# Altium schematic symbol library Regulator_Linear.SchLib: 1620 symbols (part 5 of 16)
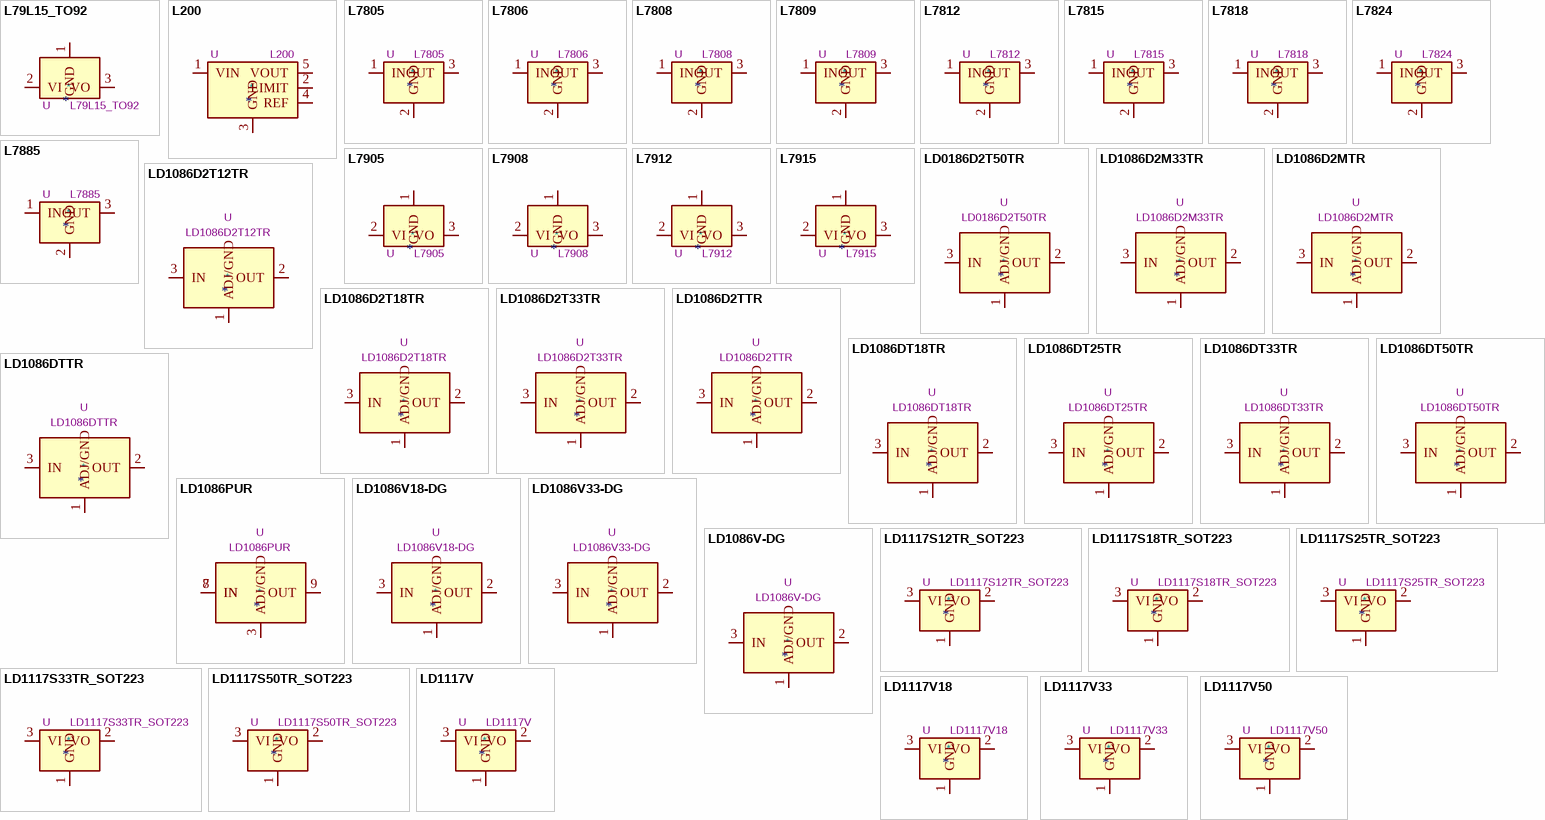
[diagram p44: symbols L79L15_TO92 to LD1117V50]

## LD1086D2MTR
designator *  value LD1086D2MTR  Reference: U
Positive, 1.5A 30V, Linear Regulator, Adjustable TO-263; ki_keywords: Linear Regulator 1.5A Adjustable; ki_fp_filters: TO?263*TabPin2*; Footprint: Package_TO_SOT_SMD:TO-263-3_TabPin2; Datasheet: https://www.st.com/resource/en/datasheet/ld1086.pdf; Description_: Positive, 1.5A 30V, Linear Regulator, Adjustable TO-263
pins: 1 ADJ/GND, 2 OUT, 3 IN

## LD1086D2T12TR
designator *  value LD1086D2T12TR  Reference: U
Positive, 1.5A 30V, Linear Regulator, Fixed Output 12V, TO-263; ki_keywords: Linear Regulator 1.5A Fixed Output; ki_fp_filters: TO?263?2*; Footprint: Package_TO_SOT_SMD:TO-263-2; Datasheet: https://www.st.com/resource/en/datasheet/ld1086.pdf; Description_: Positive, 1.5A 30V, Linear Regulator, Fixed Output 12V, TO-263
pins: 1 ADJ/GND, 2 OUT, 3 IN

## LD1086D2T18TR
designator *  value LD1086D2T18TR  Reference: U
Positive, 1.5A 30V, Linear Regulator, Fixed Output 1.8V, TO-263; ki_keywords: Linear Regulator 1.5A Fixed Output; ki_fp_filters: TO?263?2*; Footprint: Package_TO_SOT_SMD:TO-263-2; Datasheet: https://www.st.com/resource/en/datasheet/ld1086.pdf; Description_: Positive, 1.5A 30V, Linear Regulator, Fixed Output 1.8V, TO-263
pins: 1 ADJ/GND, 2 OUT, 3 IN

## LD1086D2T33TR
designator *  value LD1086D2T33TR  Reference: U
Positive, 1.5A 30V, Linear Regulator, Fixed Output 3.3V, TO-263; ki_keywords: Linear Regulator 1.5A Fixed Output; ki_fp_filters: TO?263?2*; Footprint: Package_TO_SOT_SMD:TO-263-2; Datasheet: https://www.st.com/resource/en/datasheet/ld1086.pdf; Description_: Positive, 1.5A 30V, Linear Regulator, Fixed Output 3.3V, TO-263
pins: 1 ADJ/GND, 2 OUT, 3 IN

## LD1086D2TTR
designator *  value LD1086D2TTR  Reference: U
Positive, 1.5A 30V, Linear Regulator, Adjustable, TO-263; ki_keywords: Linear Regulator 1.5A Adjustable; ki_fp_filters: TO?263?2*; Footprint: Package_TO_SOT_SMD:TO-263-2; Datasheet: https://www.st.com/resource/en/datasheet/ld1086.pdf; Description_: Positive, 1.5A 30V, Linear Regulator, Adjustable, TO-263
pins: 1 ADJ/GND, 2 OUT, 3 IN

## LD1086DT18TR
designator *  value LD1086DT18TR  Reference: U
Positive, 1.5A 30V, Linear Regulator, Fixed Output 1.8V, TO-252; ki_keywords: Linear Regulator 1.5A Fixed Output; ki_fp_filters: TO?252?2*; Footprint: Package_TO_SOT_SMD:TO-252-2; Datasheet: https://www.st.com/resource/en/datasheet/ld1086.pdf; Description_: Positive, 1.5A 30V, Linear Regulator, Fixed Output 1.8V, TO-252
pins: 1 ADJ/GND, 2 OUT, 3 IN

## LD1086DT25TR
designator *  value LD1086DT25TR  Reference: U
Positive, 1.5A 30V, Linear Regulator, Fixed Output 2.5V, TO-252; ki_keywords: Linear Regulator 1.5A Fixed Output; ki_fp_filters: TO?252?2*; Footprint: Package_TO_SOT_SMD:TO-252-2; Datasheet: https://www.st.com/resource/en/datasheet/ld1086.pdf; Description_: Positive, 1.5A 30V, Linear Regulator, Fixed Output 2.5V, TO-252
pins: 1 ADJ/GND, 2 OUT, 3 IN

## LD1086DT33TR
designator *  value LD1086DT33TR  Reference: U
Positive, 1.5A 30V, Linear Regulator, Fixed Output 3.3V, TO-252; ki_keywords: Linear Regulator 1.5A Fixed Output; ki_fp_filters: TO?252?2*; Footprint: Package_TO_SOT_SMD:TO-252-2; Datasheet: https://www.st.com/resource/en/datasheet/ld1086.pdf; Description_: Positive, 1.5A 30V, Linear Regulator, Fixed Output 3.3V, TO-252
pins: 1 ADJ/GND, 2 OUT, 3 IN

## LD1086DT50TR
designator *  value LD1086DT50TR  Reference: U
Positive, 1.5A 30V, Linear Regulator, Fixed Output 5V, TO-252; ki_keywords: Linear Regulator 1.5A Fixed Output; ki_fp_filters: TO?252?2*; Footprint: Package_TO_SOT_SMD:TO-252-2; Datasheet: https://www.st.com/resource/en/datasheet/ld1086.pdf; Description_: Positive, 1.5A 30V, Linear Regulator, Fixed Output 5V, TO-252
pins: 1 ADJ/GND, 2 OUT, 3 IN

## LD1086DTTR
designator *  value LD1086DTTR  Reference: U
Positive, 1.5A 30V, Linear Regulator, Adjustable, TO-252; ki_keywords: Linear Regulator 1.5A Adjustable; ki_fp_filters: TO?252?2*; Footprint: Package_TO_SOT_SMD:TO-252-2; Datasheet: https://www.st.com/resource/en/datasheet/ld1086.pdf; Description_: Positive, 1.5A 30V, Linear Regulator, Adjustable, TO-252
pins: 1 ADJ/GND, 2 OUT, 3 IN

## LD1086PUR
designator *  value LD1086PUR  Reference: U
Positive, 1.5A 30V, Linear Regulator, Adjustable, DFN8; ki_keywords: Linear Regulator 1.5A Adjustable; ki_fp_filters: DFN*1EP*4x4mm*P0.8mm*; Footprint: Package_DFN_QFN:DFN-8-1EP_4x4mm_P0.8mm_EP2.3x3.24mm; Datasheet: https://www.st.com/resource/en/datasheet/ld1086.pdf; Description_: Positive, 1.5A 30V, Linear Regulator, Adjustable, DFN8
pins: 3 ADJ/GND, 7 IN, 8 IN, 9 OUT

## LD1086V18-DG
designator *  value LD1086V18-DG  Reference: U
Positive, 1.5A 30V, Linear Regulator, Fixed Output 1.8V, TO-220; ki_keywords: Linear Regulator 1.5A Fixed Output; ki_fp_filters: TO?220*; Footprint: Package_TO_SOT_THT:TO-220-3_Vertical; Datasheet: https://www.st.com/resource/en/datasheet/ld1086.pdf; Description_: Positive, 1.5A 30V, Linear Regulator, Fixed Output 1.8V, TO-220
pins: 1 ADJ/GND, 2 OUT, 3 IN

## LD1086V33-DG
designator *  value LD1086V33-DG  Reference: U
Positive, 1.5A 30V, Linear Regulator, Fixed Output 3.3V, TO-220; ki_keywords: Linear Regulator 1.5A Fixed Output; ki_fp_filters: TO?220*; Footprint: Package_TO_SOT_THT:TO-220-3_Vertical; Datasheet: https://www.st.com/resource/en/datasheet/ld1086.pdf; Description_: Positive, 1.5A 30V, Linear Regulator, Fixed Output 3.3V, TO-220
pins: 1 ADJ/GND, 2 OUT, 3 IN

## LD1086V-DG
designator *  value LD1086V-DG  Reference: U
Positive, 1.5A 30V, Linear Regulator, Adjustable, TO-220; ki_keywords: Linear Regulator 1.5A Adjustable; ki_fp_filters: TO?220*; Footprint: Package_TO_SOT_THT:TO-220-3_Vertical; Datasheet: https://www.st.com/resource/en/datasheet/ld1086.pdf; Description_: Positive, 1.5A 30V, Linear Regulator, Adjustable, TO-220
pins: 1 ADJ/GND, 2 OUT, 3 IN

## LD1117S12TR_SOT223
designator *  value LD1117S12TR_SOT223  Reference: U
800mA Fixed Low Drop Positive Voltage Regulator, Fixed Output 1.2V, SOT-223; ki_keywords: REGULATOR LDO 1.2V; ki_fp_filters: SOT?223*TabPin2*; Footprint: Package_TO_SOT_SMD:SOT-223-3_TabPin2; Datasheet: http://www.st.com/st-web-ui/static/active/en/resource/technical/document/datasheet/CD00000544.pdf; Description_: 800mA Fixed Low Drop Positive Voltage Regulator, Fixed Output 1.2V, SOT-223
pins: 1 GND, 2 VO, 3 VI

## LD1117S18TR_SOT223
designator *  value LD1117S18TR_SOT223  Reference: U
800mA Fixed Low Drop Positive Voltage Regulator, Fixed Output 1.8V, SOT-223; ki_keywords: REGULATOR LDO 1.8V; ki_fp_filters: SOT?223*TabPin2*; Footprint: Package_TO_SOT_SMD:SOT-223-3_TabPin2; Datasheet: http://www.st.com/st-web-ui/static/active/en/resource/technical/document/datasheet/CD00000544.pdf; Description_: 800mA Fixed Low Drop Positive Voltage Regulator, Fixed Output 1.8V, SOT-223
pins: 1 GND, 2 VO, 3 VI

## LD1117S25TR_SOT223
designator *  value LD1117S25TR_SOT223  Reference: U
800mA Fixed Low Drop Positive Voltage Regulator, Fixed Output 2.5V, SOT-223; ki_keywords: REGULATOR LDO 2.5V; ki_fp_filters: SOT?223*TabPin2*; Footprint: Package_TO_SOT_SMD:SOT-223-3_TabPin2; Datasheet: http://www.st.com/st-web-ui/static/active/en/resource/technical/document/datasheet/CD00000544.pdf; Description_: 800mA Fixed Low Drop Positive Voltage Regulator, Fixed Output 2.5V, SOT-223
pins: 1 GND, 2 VO, 3 VI

## LD1117S33TR_SOT223
designator *  value LD1117S33TR_SOT223  Reference: U
800mA Fixed Low Drop Positive Voltage Regulator, Fixed Output 3.3V, SOT-223; ki_keywords: REGULATOR LDO 3.3V; ki_fp_filters: SOT?223*TabPin2*; Footprint: Package_TO_SOT_SMD:SOT-223-3_TabPin2; Datasheet: http://www.st.com/st-web-ui/static/active/en/resource/technical/document/datasheet/CD00000544.pdf; Description_: 800mA Fixed Low Drop Positive Voltage Regulator, Fixed Output 3.3V, SOT-223
pins: 1 GND, 2 VO, 3 VI

## LD1117S50TR_SOT223
designator *  value LD1117S50TR_SOT223  Reference: U
800mA Fixed Low Drop Positive Voltage Regulator, Fixed Output 5.0V, SOT-223; ki_keywords: REGULATOR LDO 5.0V; ki_fp_filters: SOT?223*TabPin2*; Footprint: Package_TO_SOT_SMD:SOT-223-3_TabPin2; Datasheet: http://www.st.com/st-web-ui/static/active/en/resource/technical/document/datasheet/CD00000544.pdf; Description_: 800mA Fixed Low Drop Positive Voltage Regulator, Fixed Output 5.0V, SOT-223
pins: 1 GND, 2 VO, 3 VI

## LD1117V
designator *  value LD1117V  Reference: U
800 mA Variable Low Drop Positive Voltage Regulator (ldo). Max input 15V. Output from 1.25V to 25V. TO-220-3; ki_keywords: low-dropout-regulator ldo; ki_fp_filters: *TO*220*; Footprint: Package_TO_SOT_THT:TO-220-3_Vertical; Datasheet: https://www.st.com/resource/en/datasheet/ld1117.pdf; Description_: 800 mA Variable Low Drop Positive Voltage Regulator (ldo). Max input 15V. Output from 1.25V to 25V. TO-220-3
pins: 1 GND, 2 VO, 3 VI

## LD1117V18
designator *  value LD1117V18  Reference: U
800 mA Fixed Low Drop Positive Voltage Regulator (LDO). Max input 15V. Fixed Output 1.8V. TO-220-3; ki_keywords: low-dropout-regulator ldo; ki_fp_filters: *TO*220*; Footprint: Package_TO_SOT_THT:TO-220-3_Vertical; Datasheet: https://www.st.com/resource/en/datasheet/ld1117.pdf; Description_: 800 mA Fixed Low Drop Positive Voltage Regulator (LDO). Max input 15V. Fixed Output 1.8V. TO-220-3
pins: 1 GND, 2 VO, 3 VI

## LD1117V33
designator *  value LD1117V33  Reference: U
800 mA Fixed Low Drop Positive Voltage Regulator (ldo). Max input 15V. Fixed Output 3.3V. TO-220-3; ki_keywords: low-dropout-regulator ldo; ki_fp_filters: *TO?220*; Footprint: Package_TO_SOT_THT:TO-220-3_Vertical; Datasheet: https://www.st.com/resource/en/datasheet/ld1117.pdf; Description_: 800 mA Fixed Low Drop Positive Voltage Regulator (ldo). Max input 15V. Fixed Output 3.3V. TO-220-3
pins: 1 GND, 2 VO, 3 VI

## LD1117V50
designator *  value LD1117V50  Reference: U
800 mA Fixed Low Drop Positive Voltage Regulator (ldo). Max input 15V. Fixed Output 5.0V. TO-220-3; ki_keywords: low-dropout-regulator ldo; ki_fp_filters: *TO*220*; Footprint: Package_TO_SOT_THT:TO-220-3_Vertical; Datasheet: https://www.st.com/resource/en/datasheet/ld1117.pdf; Description_: 800 mA Fixed Low Drop Positive Voltage Regulator (ldo). Max input 15V. Fixed Output 5.0V. TO-220-3
pins: 1 GND, 2 VO, 3 VI

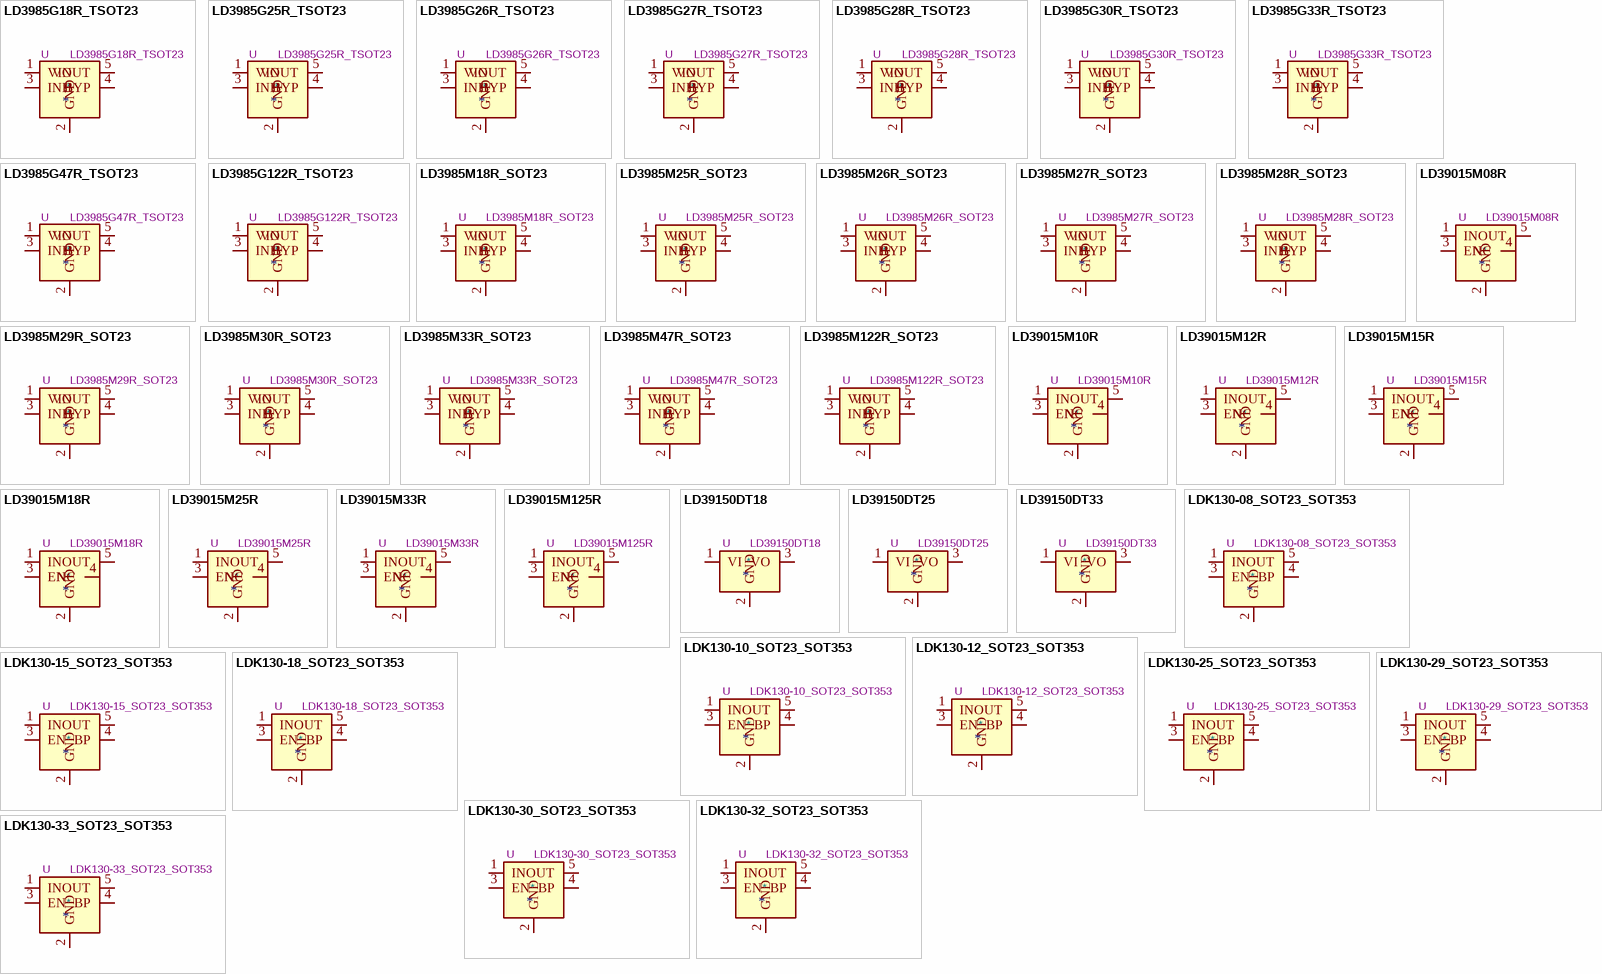
[diagram p11: symbols LD3985G18R_TSOT23 to LDK130-33_SOT23_SOT353]

## LD3985G18R_TSOT23
designator *  value LD3985G18R_TSOT23  Reference: U
150mA Low Dropout Voltage Regulator, Fixed Output 1.8V, TSOT-23-5; ki_keywords: 150mA LDO Regulator Fixed Positive; ki_fp_filters: TSOT?23*; Footprint: Package_TO_SOT_SMD:TSOT-23-5; Datasheet: http://www.st.com/internet/com/TECHNICAL_RESOURCES/TECHNICAL_LITERATURE/DATASHEET/CD00003395.pdf; Description_: 150mA Low Dropout Voltage Regulator, Fixed Output 1.8V, TSOT-23-5
pins: 1 VIN, 2 GND, 3 INH, 4 BYP, 5 VOUT

## LD3985G25R_TSOT23
designator *  value LD3985G25R_TSOT23  Reference: U
150mA Low Dropout Voltage Regulator, Fixed Output 2.5V, TSOT-23-5; ki_keywords: 150mA LDO Regulator Fixed Positive; ki_fp_filters: TSOT?23*; Footprint: Package_TO_SOT_SMD:TSOT-23-5; Datasheet: http://www.st.com/internet/com/TECHNICAL_RESOURCES/TECHNICAL_LITERATURE/DATASHEET/CD00003395.pdf; Description_: 150mA Low Dropout Voltage Regulator, Fixed Output 2.5V, TSOT-23-5
pins: 1 VIN, 2 GND, 3 INH, 4 BYP, 5 VOUT

## LD3985G26R_TSOT23
designator *  value LD3985G26R_TSOT23  Reference: U
150mA Low Dropout Voltage Regulator, Fixed Output 2.6V, TSOT-23-5; ki_keywords: 150mA LDO Regulator Fixed Positive; ki_fp_filters: TSOT?23*; Footprint: Package_TO_SOT_SMD:TSOT-23-5; Datasheet: http://www.st.com/internet/com/TECHNICAL_RESOURCES/TECHNICAL_LITERATURE/DATASHEET/CD00003395.pdf; Description_: 150mA Low Dropout Voltage Regulator, Fixed Output 2.6V, TSOT-23-5
pins: 1 VIN, 2 GND, 3 INH, 4 BYP, 5 VOUT

## LD3985G27R_TSOT23
designator *  value LD3985G27R_TSOT23  Reference: U
150mA Low Dropout Voltage Regulator, Fixed Output 2.7V, TSOT-23-5; ki_keywords: 150mA LDO Regulator Fixed Positive; ki_fp_filters: TSOT?23*; Footprint: Package_TO_SOT_SMD:TSOT-23-5; Datasheet: http://www.st.com/internet/com/TECHNICAL_RESOURCES/TECHNICAL_LITERATURE/DATASHEET/CD00003395.pdf; Description_: 150mA Low Dropout Voltage Regulator, Fixed Output 2.7V, TSOT-23-5
pins: 1 VIN, 2 GND, 3 INH, 4 BYP, 5 VOUT

## LD3985G28R_TSOT23
designator *  value LD3985G28R_TSOT23  Reference: U
150mA Low Dropout Voltage Regulator, Fixed Output 2.8V, TSOT-23-5; ki_keywords: 150mA LDO Regulator Fixed Positive; ki_fp_filters: TSOT?23*; Footprint: Package_TO_SOT_SMD:TSOT-23-5; Datasheet: http://www.st.com/internet/com/TECHNICAL_RESOURCES/TECHNICAL_LITERATURE/DATASHEET/CD00003395.pdf; Description_: 150mA Low Dropout Voltage Regulator, Fixed Output 2.8V, TSOT-23-5
pins: 1 VIN, 2 GND, 3 INH, 4 BYP, 5 VOUT

## LD3985G30R_TSOT23
designator *  value LD3985G30R_TSOT23  Reference: U
150mA Low Dropout Voltage Regulator, Fixed Output 3.0V, TSOT-23-5; ki_keywords: 150mA LDO Regulator Fixed Positive; ki_fp_filters: TSOT?23*; Footprint: Package_TO_SOT_SMD:TSOT-23-5; Datasheet: http://www.st.com/internet/com/TECHNICAL_RESOURCES/TECHNICAL_LITERATURE/DATASHEET/CD00003395.pdf; Description_: 150mA Low Dropout Voltage Regulator, Fixed Output 3.0V, TSOT-23-5
pins: 1 VIN, 2 GND, 3 INH, 4 BYP, 5 VOUT

## LD3985G33R_TSOT23
designator *  value LD3985G33R_TSOT23  Reference: U
150mA Low Dropout Voltage Regulator, Fixed Output 3.3V, TSOT-23-5; ki_keywords: 150mA LDO Regulator Fixed Positive; ki_fp_filters: TSOT?23*; Footprint: Package_TO_SOT_SMD:TSOT-23-5; Datasheet: http://www.st.com/internet/com/TECHNICAL_RESOURCES/TECHNICAL_LITERATURE/DATASHEET/CD00003395.pdf; Description_: 150mA Low Dropout Voltage Regulator, Fixed Output 3.3V, TSOT-23-5
pins: 1 VIN, 2 GND, 3 INH, 4 BYP, 5 VOUT

## LD3985G47R_TSOT23
designator *  value LD3985G47R_TSOT23  Reference: U
150mA Low Dropout Voltage Regulator, Fixed Output 4.7V, TSOT-23-5; ki_keywords: 150mA LDO Regulator Fixed Positive; ki_fp_filters: TSOT?23*; Footprint: Package_TO_SOT_SMD:TSOT-23-5; Datasheet: http://www.st.com/internet/com/TECHNICAL_RESOURCES/TECHNICAL_LITERATURE/DATASHEET/CD00003395.pdf; Description_: 150mA Low Dropout Voltage Regulator, Fixed Output 4.7V, TSOT-23-5
pins: 1 VIN, 2 GND, 3 INH, 4 BYP, 5 VOUT

## LD3985G122R_TSOT23
designator *  value LD3985G122R_TSOT23  Reference: U
150mA Low Dropout Voltage Regulator, Fixed Output 1.22V, TSOT-23-5; ki_keywords: 150mA LDO Regulator Fixed Positive; ki_fp_filters: TSOT?23*; Footprint: Package_TO_SOT_SMD:TSOT-23-5; Datasheet: http://www.st.com/internet/com/TECHNICAL_RESOURCES/TECHNICAL_LITERATURE/DATASHEET/CD00003395.pdf; Description_: 150mA Low Dropout Voltage Regulator, Fixed Output 1.22V, TSOT-23-5
pins: 1 VIN, 2 GND, 3 INH, 4 BYP, 5 VOUT

## LD3985M18R_SOT23
designator *  value LD3985M18R_SOT23  Reference: U
150mA Low Dropout Voltage Regulator, Fixed Output 1.8V, SOT-23-5; ki_keywords: 150mA LDO Regulator Fixed Positive; ki_fp_filters: SOT?23*; Footprint: Package_TO_SOT_SMD:SOT-23-5; Datasheet: http://www.st.com/internet/com/TECHNICAL_RESOURCES/TECHNICAL_LITERATURE/DATASHEET/CD00003395.pdf; Description_: 150mA Low Dropout Voltage Regulator, Fixed Output 1.8V, SOT-23-5
pins: 1 VIN, 2 GND, 3 INH, 4 BYP, 5 VOUT

## LD3985M25R_SOT23
designator *  value LD3985M25R_SOT23  Reference: U
150mA Low Dropout Voltage Regulator, Fixed Output 2.5V, SOT-23-5; ki_keywords: 150mA LDO Regulator Fixed Positive; ki_fp_filters: SOT?23*; Footprint: Package_TO_SOT_SMD:SOT-23-5; Datasheet: http://www.st.com/internet/com/TECHNICAL_RESOURCES/TECHNICAL_LITERATURE/DATASHEET/CD00003395.pdf; Description_: 150mA Low Dropout Voltage Regulator, Fixed Output 2.5V, SOT-23-5
pins: 1 VIN, 2 GND, 3 INH, 4 BYP, 5 VOUT

## LD3985M26R_SOT23
designator *  value LD3985M26R_SOT23  Reference: U
150mA Low Dropout Voltage Regulator, Fixed Output 2.6V, SOT-23-5; ki_keywords: 150mA LDO Regulator Fixed Positive; ki_fp_filters: SOT?23*; Footprint: Package_TO_SOT_SMD:SOT-23-5; Datasheet: http://www.st.com/internet/com/TECHNICAL_RESOURCES/TECHNICAL_LITERATURE/DATASHEET/CD00003395.pdf; Description_: 150mA Low Dropout Voltage Regulator, Fixed Output 2.6V, SOT-23-5
pins: 1 VIN, 2 GND, 3 INH, 4 BYP, 5 VOUT

## LD3985M27R_SOT23
designator *  value LD3985M27R_SOT23  Reference: U
150mA Low Dropout Voltage Regulator, Fixed Output 2.7V, SOT-23-5; ki_keywords: 150mA LDO Regulator Fixed Positive; ki_fp_filters: SOT?23*; Footprint: Package_TO_SOT_SMD:SOT-23-5; Datasheet: http://www.st.com/internet/com/TECHNICAL_RESOURCES/TECHNICAL_LITERATURE/DATASHEET/CD00003395.pdf; Description_: 150mA Low Dropout Voltage Regulator, Fixed Output 2.7V, SOT-23-5
pins: 1 VIN, 2 GND, 3 INH, 4 BYP, 5 VOUT

## LD3985M28R_SOT23
designator *  value LD3985M28R_SOT23  Reference: U
150mA Low Dropout Voltage Regulator, Fixed Output 2.8V, SOT-23-5; ki_keywords: 150mA LDO Regulator Fixed Positive; ki_fp_filters: SOT?23*; Footprint: Package_TO_SOT_SMD:SOT-23-5; Datasheet: http://www.st.com/internet/com/TECHNICAL_RESOURCES/TECHNICAL_LITERATURE/DATASHEET/CD00003395.pdf; Description_: 150mA Low Dropout Voltage Regulator, Fixed Output 2.8V, SOT-23-5
pins: 1 VIN, 2 GND, 3 INH, 4 BYP, 5 VOUT

## LD3985M29R_SOT23
designator *  value LD3985M29R_SOT23  Reference: U
150mA Low Dropout Voltage Regulator, Fixed Output 2.8V, SOT-23-5; ki_keywords: 150mA LDO Regulator Fixed Positive; ki_fp_filters: SOT?23*; Footprint: Package_TO_SOT_SMD:SOT-23-5; Datasheet: http://www.st.com/internet/com/TECHNICAL_RESOURCES/TECHNICAL_LITERATURE/DATASHEET/CD00003395.pdf; Description_: 150mA Low Dropout Voltage Regulator, Fixed Output 2.8V, SOT-23-5
pins: 1 VIN, 2 GND, 3 INH, 4 BYP, 5 VOUT

## LD3985M30R_SOT23
designator *  value LD3985M30R_SOT23  Reference: U
150mA Low Dropout Voltage Regulator, Fixed Output 3.0V, SOT-23-5; ki_keywords: 150mA LDO Regulator Fixed Positive; ki_fp_filters: SOT?23*; Footprint: Package_TO_SOT_SMD:SOT-23-5; Datasheet: http://www.st.com/internet/com/TECHNICAL_RESOURCES/TECHNICAL_LITERATURE/DATASHEET/CD00003395.pdf; Description_: 150mA Low Dropout Voltage Regulator, Fixed Output 3.0V, SOT-23-5
pins: 1 VIN, 2 GND, 3 INH, 4 BYP, 5 VOUT

## LD3985M33R_SOT23
designator *  value LD3985M33R_SOT23  Reference: U
150mA Low Dropout Voltage Regulator, Fixed Output 3.3V, SOT-23-5; ki_keywords: 150mA LDO Regulator Fixed Positive; ki_fp_filters: SOT?23*; Footprint: Package_TO_SOT_SMD:SOT-23-5; Datasheet: http://www.st.com/internet/com/TECHNICAL_RESOURCES/TECHNICAL_LITERATURE/DATASHEET/CD00003395.pdf; Description_: 150mA Low Dropout Voltage Regulator, Fixed Output 3.3V, SOT-23-5
pins: 1 VIN, 2 GND, 3 INH, 4 BYP, 5 VOUT

## LD3985M47R_SOT23
designator *  value LD3985M47R_SOT23  Reference: U
150mA Low Dropout Voltage Regulator, Fixed Output 4.7V, SOT-23-5; ki_keywords: 150mA LDO Regulator Fixed Positive; ki_fp_filters: SOT?23*; Footprint: Package_TO_SOT_SMD:SOT-23-5; Datasheet: http://www.st.com/internet/com/TECHNICAL_RESOURCES/TECHNICAL_LITERATURE/DATASHEET/CD00003395.pdf; Description_: 150mA Low Dropout Voltage Regulator, Fixed Output 4.7V, SOT-23-5
pins: 1 VIN, 2 GND, 3 INH, 4 BYP, 5 VOUT

## LD3985M122R_SOT23
designator *  value LD3985M122R_SOT23  Reference: U
150mA Low Dropout Voltage Regulator, Fixed Output 1.22V, SOT-23-5; ki_keywords: 150mA LDO Regulator Fixed Positive; ki_fp_filters: SOT?23*; Footprint: Package_TO_SOT_SMD:SOT-23-5; Datasheet: http://www.st.com/internet/com/TECHNICAL_RESOURCES/TECHNICAL_LITERATURE/DATASHEET/CD00003395.pdf; Description_: 150mA Low Dropout Voltage Regulator, Fixed Output 1.22V, SOT-23-5
pins: 1 VIN, 2 GND, 3 INH, 4 BYP, 5 VOUT

## LD39015M08R
designator *  value LD39015M08R  Reference: U
150mA low quiescent current low noise voltage regulator, Fixed Output 0.8V, SOT-23-5; ki_keywords: 150mA LDO Regulator Fixed Positive; ki_fp_filters: SOT?23*; Footprint: Package_TO_SOT_SMD:SOT-23-5; Datasheet: http://www.st.com/resource/en/datasheet/ld39015.pdf; Description_: 150mA low quiescent current low noise voltage regulator, Fixed Output 0.8V, SOT-23-5
pins: 1 IN, 2 GND, 3 EN, 4 NC, 5 OUT

## LD39015M10R
designator *  value LD39015M10R  Reference: U
150mA low quiescent current low noise voltage regulator, Fixed Output 1.0V, SOT-23-5; ki_keywords: 150mA LDO Regulator Fixed Positive; ki_fp_filters: SOT?23*; Footprint: Package_TO_SOT_SMD:SOT-23-5; Datasheet: http://www.st.com/resource/en/datasheet/ld39015.pdf; Description_: 150mA low quiescent current low noise voltage regulator, Fixed Output 1.0V, SOT-23-5
pins: 1 IN, 2 GND, 3 EN, 4 NC, 5 OUT

## LD39015M12R
designator *  value LD39015M12R  Reference: U
150mA low quiescent current low noise voltage regulator, Fixed Output 1.2V, SOT-23-5; ki_keywords: 150mA LDO Regulator Fixed Positive; ki_fp_filters: SOT?23*; Footprint: Package_TO_SOT_SMD:SOT-23-5; Datasheet: http://www.st.com/resource/en/datasheet/ld39015.pdf; Description_: 150mA low quiescent current low noise voltage regulator, Fixed Output 1.2V, SOT-23-5
pins: 1 IN, 2 GND, 3 EN, 4 NC, 5 OUT

## LD39015M15R
designator *  value LD39015M15R  Reference: U
150mA low quiescent current low noise voltage regulator, Fixed Output 1.5V, SOT-23-5; ki_keywords: 150mA LDO Regulator Fixed Positive; ki_fp_filters: SOT?23*; Footprint: Package_TO_SOT_SMD:SOT-23-5; Datasheet: http://www.st.com/resource/en/datasheet/ld39015.pdf; Description_: 150mA low quiescent current low noise voltage regulator, Fixed Output 1.5V, SOT-23-5
pins: 1 IN, 2 GND, 3 EN, 4 NC, 5 OUT

## LD39015M18R
designator *  value LD39015M18R  Reference: U
150mA low quiescent current low noise voltage regulator, Fixed Output 1.8V, SOT-23-5; ki_keywords: 150mA LDO Regulator Fixed Positive; ki_fp_filters: SOT?23*; Footprint: Package_TO_SOT_SMD:SOT-23-5; Datasheet: http://www.st.com/resource/en/datasheet/ld39015.pdf; Description_: 150mA low quiescent current low noise voltage regulator, Fixed Output 1.8V, SOT-23-5
pins: 1 IN, 2 GND, 3 EN, 4 NC, 5 OUT

## LD39015M25R
designator *  value LD39015M25R  Reference: U
150mA low quiescent current low noise voltage regulator, Fixed Output 2.5V, SOT-23-5; ki_keywords: 150mA LDO Regulator Fixed Positive; ki_fp_filters: SOT?23*; Footprint: Package_TO_SOT_SMD:SOT-23-5; Datasheet: http://www.st.com/resource/en/datasheet/ld39015.pdf; Description_: 150mA low quiescent current low noise voltage regulator, Fixed Output 2.5V, SOT-23-5
pins: 1 IN, 2 GND, 3 EN, 4 NC, 5 OUT

## LD39015M33R
designator *  value LD39015M33R  Reference: U
150mA low quiescent current low noise voltage regulator, Fixed Output 3.3V, SOT-23-5; ki_keywords: 150mA LDO Regulator Fixed Positive; ki_fp_filters: SOT?23*; Footprint: Package_TO_SOT_SMD:SOT-23-5; Datasheet: http://www.st.com/resource/en/datasheet/ld39015.pdf; Description_: 150mA low quiescent current low noise voltage regulator, Fixed Output 3.3V, SOT-23-5
pins: 1 IN, 2 GND, 3 EN, 4 NC, 5 OUT

## LD39015M125R
designator *  value LD39015M125R  Reference: U
150mA low quiescent current low noise voltage regulator, Fixed Output 1.25V, SOT-23-5; ki_keywords: 150mA LDO Regulator Fixed Positive; ki_fp_filters: SOT?23*; Footprint: Package_TO_SOT_SMD:SOT-23-5; Datasheet: http://www.st.com/resource/en/datasheet/ld39015.pdf; Description_: 150mA low quiescent current low noise voltage regulator, Fixed Output 1.25V, SOT-23-5
pins: 1 IN, 2 GND, 3 EN, 4 NC, 5 OUT

## LD39150DT18
designator *  value LD39150DT18  Reference: U
1.5A Ultra Low Dropout regulator, positive, 1.8V fixed output, TO-252; ki_keywords: linear regulator ldo fixed positive; ki_fp_filters: TO?252*TabPin2*; Footprint: Package_TO_SOT_SMD:TO-252-3_TabPin2; Datasheet: https://www.st.com/resource/en/datasheet/ld39150.pdf; Description_: 1.5A Ultra Low Dropout regulator, positive, 1.8V fixed output, TO-252
pins: 1 VI, 2 GND, 3 VO

## LD39150DT25
designator *  value LD39150DT25  Reference: U
1.5A Ultra Low Dropout regulator, positive, 2.5V fixed output, TO-252; ki_keywords: linear regulator ldo fixed positive; ki_fp_filters: TO?252*TabPin2*; Footprint: Package_TO_SOT_SMD:TO-252-3_TabPin2; Datasheet: https://www.st.com/resource/en/datasheet/ld39150.pdf; Description_: 1.5A Ultra Low Dropout regulator, positive, 2.5V fixed output, TO-252
pins: 1 VI, 2 GND, 3 VO

## LD39150DT33
designator *  value LD39150DT33  Reference: U
1.5A Ultra Low Dropout regulator, positive, 3.3V fixed output, TO-252; ki_keywords: linear regulator ldo fixed positive; ki_fp_filters: TO?252*TabPin2*; Footprint: Package_TO_SOT_SMD:TO-252-3_TabPin2; Datasheet: https://www.st.com/resource/en/datasheet/ld39150.pdf; Description_: 1.5A Ultra Low Dropout regulator, positive, 3.3V fixed output, TO-252
pins: 1 VI, 2 GND, 3 VO

## LDK130-08_SOT23_SOT353
designator *  value LDK130-08_SOT23_SOT353  Reference: U
300mA low dropout linear regulator, low quiescent current very, low noise, shutdown pin, 0.8V fixed positive output, SOT-23-5/SOT-353-5/SC-70-5; ki_keywords: linear regulator ldo fixed positive low noise low quienscent current; ki_fp_filters: SOT?23* SOT?353* *SC?70*; Datasheet: http://www.st.com/content/ccc/resource/technical/document/datasheet/29/10/f7/87/2f/66/47/f4/DM00076097.pdf/files/DM00076097.pdf/jcr:content/translations/en.DM00076097.pdf; Description_: 300mA low dropout linear regulator, low quiescent current very, low noise, shutdown pin, 0.8V fixed positive output, SOT-23-5/SOT-353-5/SC-70-5
pins: 1 IN, 2 GND, 3 EN, 4 BP, 5 OUT

## LDK130-10_SOT23_SOT353
designator *  value LDK130-10_SOT23_SOT353  Reference: U
300mA low dropout linear regulator, low quiescent current very, low noise, shutdown pin, 1.0V fixed positive output, SOT-23-5/SOT-353-5/SC-70-5; ki_keywords: linear regulator ldo fixed positive low noise low quienscent current; ki_fp_filters: SOT?23* SOT?353* *SC?70*; Datasheet: http://www.st.com/content/ccc/resource/technical/document/datasheet/29/10/f7/87/2f/66/47/f4/DM00076097.pdf/files/DM00076097.pdf/jcr:content/translations/en.DM00076097.pdf; Description_: 300mA low dropout linear regulator, low quiescent current very, low noise, shutdown pin, 1.0V fixed positive output, SOT-23-5/SOT-353-5/SC-70-5
pins: 1 IN, 2 GND, 3 EN, 4 BP, 5 OUT

## LDK130-12_SOT23_SOT353
designator *  value LDK130-12_SOT23_SOT353  Reference: U
300mA low dropout linear regulator, low quiescent current very, low noise, shutdown pin, 1.2V fixed positive output, SOT-23-5/SOT-353-5/SC-70-5; ki_keywords: linear regulator ldo fixed positive low noise low quienscent current; ki_fp_filters: SOT?23* SOT?353* *SC?70*; Datasheet: http://www.st.com/content/ccc/resource/technical/document/datasheet/29/10/f7/87/2f/66/47/f4/DM00076097.pdf/files/DM00076097.pdf/jcr:content/translations/en.DM00076097.pdf; Description_: 300mA low dropout linear regulator, low quiescent current very, low noise, shutdown pin, 1.2V fixed positive output, SOT-23-5/SOT-353-5/SC-70-5
pins: 1 IN, 2 GND, 3 EN, 4 BP, 5 OUT

## LDK130-15_SOT23_SOT353
designator *  value LDK130-15_SOT23_SOT353  Reference: U
300mA low dropout linear regulator, low quiescent current very, low noise, shutdown pin, 1.5V fixed positive output, SOT-23-5/SOT-353-5/SC-70-5; ki_keywords: linear regulator ldo fixed positive low noise low quienscent current; ki_fp_filters: SOT?23* SOT?353* *SC?70*; Datasheet: http://www.st.com/content/ccc/resource/technical/document/datasheet/29/10/f7/87/2f/66/47/f4/DM00076097.pdf/files/DM00076097.pdf/jcr:content/translations/en.DM00076097.pdf; Description_: 300mA low dropout linear regulator, low quiescent current very, low noise, shutdown pin, 1.5V fixed positive output, SOT-23-5/SOT-353-5/SC-70-5
pins: 1 IN, 2 GND, 3 EN, 4 BP, 5 OUT

## LDK130-18_SOT23_SOT353
designator *  value LDK130-18_SOT23_SOT353  Reference: U
300mA low dropout linear regulator, low quiescent current very, low noise, shutdown pin, 1.8V fixed positive output, SOT-23-5/SOT-353-5/SC-70-5; ki_keywords: linear regulator ldo fixed positive low noise low quienscent current; ki_fp_filters: SOT?23* SOT?353* *SC?70*; Datasheet: http://www.st.com/content/ccc/resource/technical/document/datasheet/29/10/f7/87/2f/66/47/f4/DM00076097.pdf/files/DM00076097.pdf/jcr:content/translations/en.DM00076097.pdf; Description_: 300mA low dropout linear regulator, low quiescent current very, low noise, shutdown pin, 1.8V fixed positive output, SOT-23-5/SOT-353-5/SC-70-5
pins: 1 IN, 2 GND, 3 EN, 4 BP, 5 OUT

## LDK130-25_SOT23_SOT353
designator *  value LDK130-25_SOT23_SOT353  Reference: U
300mA low dropout linear regulator, low quiescent current very, low noise, shutdown pin, 2.5V fixed positive output, SOT-23-5/SOT-353-5/SC-70-5; ki_keywords: linear regulator ldo fixed positive low noise low quienscent current; ki_fp_filters: SOT?23* SOT?353* *SC?70*; Datasheet: http://www.st.com/content/ccc/resource/technical/document/datasheet/29/10/f7/87/2f/66/47/f4/DM00076097.pdf/files/DM00076097.pdf/jcr:content/translations/en.DM00076097.pdf; Description_: 300mA low dropout linear regulator, low quiescent current very, low noise, shutdown pin, 2.5V fixed positive output, SOT-23-5/SOT-353-5/SC-70-5
pins: 1 IN, 2 GND, 3 EN, 4 BP, 5 OUT

## LDK130-29_SOT23_SOT353
designator *  value LDK130-29_SOT23_SOT353  Reference: U
300mA low dropout linear regulator, low quiescent current very, low noise, shutdown pin, 2.9V fixed positive output, SOT-23-5/SOT-353-5/SC-70-5; ki_keywords: linear regulator ldo fixed positive low noise low quienscent current; ki_fp_filters: SOT?23* SOT?353* *SC?70*; Datasheet: http://www.st.com/content/ccc/resource/technical/document/datasheet/29/10/f7/87/2f/66/47/f4/DM00076097.pdf/files/DM00076097.pdf/jcr:content/translations/en.DM00076097.pdf; Description_: 300mA low dropout linear regulator, low quiescent current very, low noise, shutdown pin, 2.9V fixed positive output, SOT-23-5/SOT-353-5/SC-70-5
pins: 1 IN, 2 GND, 3 EN, 4 BP, 5 OUT

## LDK130-30_SOT23_SOT353
designator *  value LDK130-30_SOT23_SOT353  Reference: U
300mA low dropout linear regulator, low quiescent current very, low noise, shutdown pin, 3.0V fixed positive output, SOT-23-5/SOT-353-5/SC-70-5; ki_keywords: linear regulator ldo fixed positive low noise low quienscent current; ki_fp_filters: SOT?23* SOT?353* *SC?70*; Datasheet: http://www.st.com/content/ccc/resource/technical/document/datasheet/29/10/f7/87/2f/66/47/f4/DM00076097.pdf/files/DM00076097.pdf/jcr:content/translations/en.DM00076097.pdf; Description_: 300mA low dropout linear regulator, low quiescent current very, low noise, shutdown pin, 3.0V fixed positive output, SOT-23-5/SOT-353-5/SC-70-5
pins: 1 IN, 2 GND, 3 EN, 4 BP, 5 OUT

## LDK130-32_SOT23_SOT353
designator *  value LDK130-32_SOT23_SOT353  Reference: U
300mA low dropout linear regulator, low quiescent current very, low noise, shutdown pin, 3.2V fixed positive output, SOT-23-5/SOT-353-5/SC-70-5; ki_keywords: linear regulator ldo fixed positive low noise low quienscent current; ki_fp_filters: SOT?23* SOT?353* *SC?70*; Datasheet: http://www.st.com/content/ccc/resource/technical/document/datasheet/29/10/f7/87/2f/66/47/f4/DM00076097.pdf/files/DM00076097.pdf/jcr:content/translations/en.DM00076097.pdf; Description_: 300mA low dropout linear regulator, low quiescent current very, low noise, shutdown pin, 3.2V fixed positive output, SOT-23-5/SOT-353-5/SC-70-5
pins: 1 IN, 2 GND, 3 EN, 4 BP, 5 OUT

## LDK130-33_SOT23_SOT353
designator *  value LDK130-33_SOT23_SOT353  Reference: U
300mA low dropout linear regulator, low quiescent current very, low noise, shutdown pin, 3.3V fixed positive output, SOT-23-5/SOT-353-5/SC-70-5; ki_keywords: linear regulator ldo fixed positive low noise low quienscent current; ki_fp_filters: SOT?23* SOT?353* *SC?70*; Datasheet: http://www.st.com/content/ccc/resource/technical/document/datasheet/29/10/f7/87/2f/66/47/f4/DM00076097.pdf/files/DM00076097.pdf/jcr:content/translations/en.DM00076097.pdf; Description_: 300mA low dropout linear regulator, low quiescent current very, low noise, shutdown pin, 3.3V fixed positive output, SOT-23-5/SOT-353-5/SC-70-5
pins: 1 IN, 2 GND, 3 EN, 4 BP, 5 OUT

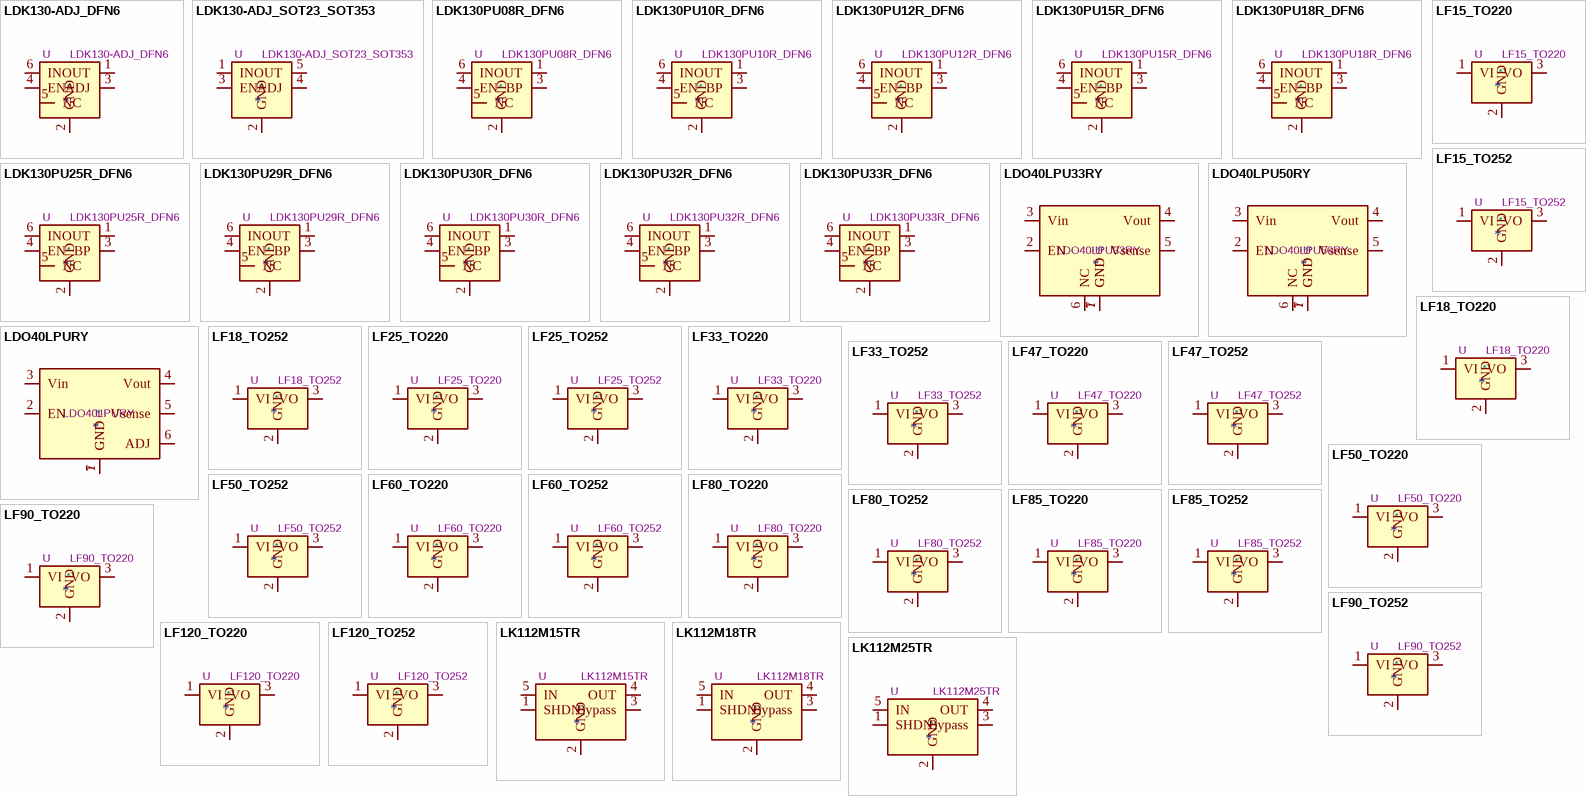
[diagram p12: symbols LDK130-ADJ_DFN6 to LK112M25TR]

## LDK130-ADJ_DFN6
designator *  value LDK130-ADJ_DFN6  Reference: U
300mA low dropout linear regulator, low quiescent current very, low noise, shutdown pin, adjustable positive output, DFN-6; ki_keywords: linear regulator ldo adjustable positive low noise low quienscent current; ki_fp_filters: DFN*1.3x1.2mm*P0.4mm*; Footprint: Package_DFN_QFN:DFN-6_1.3x1.2mm_P0.4mm; Datasheet: http://www.st.com/content/ccc/resource/technical/document/datasheet/29/10/f7/87/2f/66/47/f4/DM00076097.pdf/files/DM00076097.pdf/jcr:content/translations/en.DM00076097.pdf; Description_: 300mA low dropout linear regulator, low quiescent current very, low noise, shutdown pin, adjustable positive output, DFN-6
pins: 1 OUT, 2 GND, 3 ADJ, 4 EN, 5 NC, 6 IN

## LDK130-ADJ_SOT23_SOT353
designator *  value LDK130-ADJ_SOT23_SOT353  Reference: U
300mA low dropout linear regulator, low quiescent current very, low noise, shutdown pin, adjustable positive output, SOT-23-5/SOT-353-5/SC-70-5; ki_keywords: linear regulator ldo adjustable positive low noise low quienscent current; ki_fp_filters: SOT?23* SOT?353* *SC?70*; Datasheet: http://www.st.com/content/ccc/resource/technical/document/datasheet/29/10/f7/87/2f/66/47/f4/DM00076097.pdf/files/DM00076097.pdf/jcr:content/translations/en.DM00076097.pdf; Description_: 300mA low dropout linear regulator, low quiescent current very, low noise, shutdown pin, adjustable positive output, SOT-23-5/SOT-353-5/SC-70-5
pins: 1 IN, 2 GND, 3 EN, 4 ADJ, 5 OUT

## LDK130PU08R_DFN6
designator *  value LDK130PU08R_DFN6  Reference: U
300mA low dropout linear regulator, low quiescent current very, low noise, shutdown pin, fixed 0.8V positive output, DFN-6; ki_keywords: linear regulator ldo fixed positive low noise low quienscent current; ki_fp_filters: DFN*1.3x1.2mm*P0.4mm*; Footprint: Package_DFN_QFN:DFN-6_1.3x1.2mm_P0.4mm; Datasheet: http://www.st.com/content/ccc/resource/technical/document/datasheet/29/10/f7/87/2f/66/47/f4/DM00076097.pdf/files/DM00076097.pdf/jcr:content/translations/en.DM00076097.pdf; Description_: 300mA low dropout linear regulator, low quiescent current very, low noise, shutdown pin, fixed 0.8V positive output, DFN-6
pins: 1 OUT, 2 GND, 3 BP, 4 EN, 5 NC, 6 IN

## LDK130PU10R_DFN6
designator *  value LDK130PU10R_DFN6  Reference: U
300mA low dropout linear regulator, low quiescent current very, low noise, shutdown pin, fixed 1.0V positive output, DFN-6; ki_keywords: linear regulator ldo fixed positive low noise low quienscent current; ki_fp_filters: DFN*1.3x1.2mm*P0.4mm*; Footprint: Package_DFN_QFN:DFN-6_1.3x1.2mm_P0.4mm; Datasheet: http://www.st.com/content/ccc/resource/technical/document/datasheet/29/10/f7/87/2f/66/47/f4/DM00076097.pdf/files/DM00076097.pdf/jcr:content/translations/en.DM00076097.pdf; Description_: 300mA low dropout linear regulator, low quiescent current very, low noise, shutdown pin, fixed 1.0V positive output, DFN-6
pins: 1 OUT, 2 GND, 3 BP, 4 EN, 5 NC, 6 IN

## LDK130PU12R_DFN6
designator *  value LDK130PU12R_DFN6  Reference: U
300mA low dropout linear regulator, low quiescent current very, low noise, shutdown pin, fixed 1.2V positive output, DFN-6; ki_keywords: linear regulator ldo fixed positive low noise low quienscent current; ki_fp_filters: DFN*1.3x1.2mm*P0.4mm*; Footprint: Package_DFN_QFN:DFN-6_1.3x1.2mm_P0.4mm; Datasheet: http://www.st.com/content/ccc/resource/technical/document/datasheet/29/10/f7/87/2f/66/47/f4/DM00076097.pdf/files/DM00076097.pdf/jcr:content/translations/en.DM00076097.pdf; Description_: 300mA low dropout linear regulator, low quiescent current very, low noise, shutdown pin, fixed 1.2V positive output, DFN-6
pins: 1 OUT, 2 GND, 3 BP, 4 EN, 5 NC, 6 IN

## LDK130PU15R_DFN6
designator *  value LDK130PU15R_DFN6  Reference: U
300mA low dropout linear regulator, low quiescent current very, low noise, shutdown pin, fixed 1.5V positive output, DFN-6; ki_keywords: linear regulator ldo fixed positive low noise low quienscent current; ki_fp_filters: DFN*1.3x1.2mm*P0.4mm*; Footprint: Package_DFN_QFN:DFN-6_1.3x1.2mm_P0.4mm; Datasheet: http://www.st.com/content/ccc/resource/technical/document/datasheet/29/10/f7/87/2f/66/47/f4/DM00076097.pdf/files/DM00076097.pdf/jcr:content/translations/en.DM00076097.pdf; Description_: 300mA low dropout linear regulator, low quiescent current very, low noise, shutdown pin, fixed 1.5V positive output, DFN-6
pins: 1 OUT, 2 GND, 3 BP, 4 EN, 5 NC, 6 IN

## LDK130PU18R_DFN6
designator *  value LDK130PU18R_DFN6  Reference: U
300mA low dropout linear regulator, low quiescent current very, low noise, shutdown pin, fixed 1.8V positive output, DFN-6; ki_keywords: linear regulator ldo fixed positive low noise low quienscent current; ki_fp_filters: DFN*1.3x1.2mm*P0.4mm*; Footprint: Package_DFN_QFN:DFN-6_1.3x1.2mm_P0.4mm; Datasheet: http://www.st.com/content/ccc/resource/technical/document/datasheet/29/10/f7/87/2f/66/47/f4/DM00076097.pdf/files/DM00076097.pdf/jcr:content/translations/en.DM00076097.pdf; Description_: 300mA low dropout linear regulator, low quiescent current very, low noise, shutdown pin, fixed 1.8V positive output, DFN-6
pins: 1 OUT, 2 GND, 3 BP, 4 EN, 5 NC, 6 IN

## LDK130PU25R_DFN6
designator *  value LDK130PU25R_DFN6  Reference: U
300mA low dropout linear regulator, low quiescent current very, low noise, shutdown pin, fixed 2.5V positive output, DFN-6; ki_keywords: linear regulator ldo fixed positive low noise low quienscent current; ki_fp_filters: DFN*1.3x1.2mm*P0.4mm*; Footprint: Package_DFN_QFN:DFN-6_1.3x1.2mm_P0.4mm; Datasheet: http://www.st.com/content/ccc/resource/technical/document/datasheet/29/10/f7/87/2f/66/47/f4/DM00076097.pdf/files/DM00076097.pdf/jcr:content/translations/en.DM00076097.pdf; Description_: 300mA low dropout linear regulator, low quiescent current very, low noise, shutdown pin, fixed 2.5V positive output, DFN-6
pins: 1 OUT, 2 GND, 3 BP, 4 EN, 5 NC, 6 IN

## LDK130PU29R_DFN6
designator *  value LDK130PU29R_DFN6  Reference: U
300mA low dropout linear regulator, low quiescent current very, low noise, shutdown pin, fixed 2.9V positive output, DFN-6; ki_keywords: linear regulator ldo fixed positive low noise low quienscent current; ki_fp_filters: DFN*1.3x1.2mm*P0.4mm*; Footprint: Package_DFN_QFN:DFN-6_1.3x1.2mm_P0.4mm; Datasheet: http://www.st.com/content/ccc/resource/technical/document/datasheet/29/10/f7/87/2f/66/47/f4/DM00076097.pdf/files/DM00076097.pdf/jcr:content/translations/en.DM00076097.pdf; Description_: 300mA low dropout linear regulator, low quiescent current very, low noise, shutdown pin, fixed 2.9V positive output, DFN-6
pins: 1 OUT, 2 GND, 3 BP, 4 EN, 5 NC, 6 IN

## LDK130PU30R_DFN6
designator *  value LDK130PU30R_DFN6  Reference: U
300mA low dropout linear regulator, low quiescent current very, low noise, shutdown pin, fixed 3.0V positive output, DFN-6; ki_keywords: linear regulator ldo fixed positive low noise low quienscent current; ki_fp_filters: DFN*1.3x1.2mm*P0.4mm*; Footprint: Package_DFN_QFN:DFN-6_1.3x1.2mm_P0.4mm; Datasheet: http://www.st.com/content/ccc/resource/technical/document/datasheet/29/10/f7/87/2f/66/47/f4/DM00076097.pdf/files/DM00076097.pdf/jcr:content/translations/en.DM00076097.pdf; Description_: 300mA low dropout linear regulator, low quiescent current very, low noise, shutdown pin, fixed 3.0V positive output, DFN-6
pins: 1 OUT, 2 GND, 3 BP, 4 EN, 5 NC, 6 IN

## LDK130PU32R_DFN6
designator *  value LDK130PU32R_DFN6  Reference: U
300mA low dropout linear regulator, low quiescent current very, low noise, shutdown pin, fixed 3.2V positive output, DFN-6; ki_keywords: linear regulator ldo fixed positive low noise low quienscent current; ki_fp_filters: DFN*1.3x1.2mm*P0.4mm*; Footprint: Package_DFN_QFN:DFN-6_1.3x1.2mm_P0.4mm; Datasheet: http://www.st.com/content/ccc/resource/technical/document/datasheet/29/10/f7/87/2f/66/47/f4/DM00076097.pdf/files/DM00076097.pdf/jcr:content/translations/en.DM00076097.pdf; Description_: 300mA low dropout linear regulator, low quiescent current very, low noise, shutdown pin, fixed 3.2V positive output, DFN-6
pins: 1 OUT, 2 GND, 3 BP, 4 EN, 5 NC, 6 IN

## LDK130PU33R_DFN6
designator *  value LDK130PU33R_DFN6  Reference: U
300mA low dropout linear regulator, low quiescent current very, low noise, shutdown pin, fixed 3.3V positive output, DFN-6; ki_keywords: linear regulator ldo fixed positive low noise low quienscent current; ki_fp_filters: DFN*1.3x1.2mm*P0.4mm*; Footprint: Package_DFN_QFN:DFN-6_1.3x1.2mm_P0.4mm; Datasheet: http://www.st.com/content/ccc/resource/technical/document/datasheet/29/10/f7/87/2f/66/47/f4/DM00076097.pdf/files/DM00076097.pdf/jcr:content/translations/en.DM00076097.pdf; Description_: 300mA low dropout linear regulator, low quiescent current very, low noise, shutdown pin, fixed 3.3V positive output, DFN-6
pins: 1 OUT, 2 GND, 3 BP, 4 EN, 5 NC, 6 IN

## LDO40LPU33RY
designator *  value LDO40LPU33RY  Reference: U
400mA, 3.5V-38V input, fixed positive 3.3V output, LDO regulator with enable, DFN-6; ki_keywords: low-dropout-regulator; ki_fp_filters: DFN*1EP*3x3mm*P0.95mm*; Footprint: Package_DFN_QFN:DFN-6-1EP_3x3mm_P0.95mm_EP1.7x2.6mm; Datasheet: https://www.st.com/resource/en/datasheet/ldo40l.pdf; Description_: 400mA, 3.5V-38V input, fixed positive 3.3V output, LDO regulator with enable, DFN-6
pins: 1 GND, 2 EN, 3 Vin, 4 Vout, 5 Vsense, 6 NC, 7 GND

## LDO40LPU50RY
designator *  value LDO40LPU50RY  Reference: U
400mA, 3.5V-38V input, fixed positive 5V output, LDO regulator with enable, DFN-6; ki_keywords: low-dropout-regulator; ki_fp_filters: DFN*1EP*3x3mm*P0.95mm*; Footprint: Package_DFN_QFN:DFN-6-1EP_3x3mm_P0.95mm_EP1.7x2.6mm; Datasheet: https://www.st.com/resource/en/datasheet/ldo40l.pdf; Description_: 400mA, 3.5V-38V input, fixed positive 5V output, LDO regulator with enable, DFN-6
pins: 1 GND, 2 EN, 3 Vin, 4 Vout, 5 Vsense, 6 NC, 7 GND

## LDO40LPURY
designator *  value LDO40LPURY  Reference: U
400mA, 3.5V-38V input, 2.5V-11V output, adjustable positive LDO regulator with enable, DFN-6; ki_keywords: regulator-adjustable  low-dropout-regulator; ki_fp_filters: DFN*1EP*3x3mm*P0.95mm*; Footprint: Package_DFN_QFN:DFN-6-1EP_3x3mm_P0.95mm_EP1.7x2.6mm; Datasheet: https://www.st.com/resource/en/datasheet/ldo40l.pdf; Description_: 400mA, 3.5V-38V input, 2.5V-11V output, adjustable positive LDO regulator with enable, DFN-6
pins: 1 GND, 2 EN, 3 Vin, 4 Vout, 5 Vsense, 6 ADJ, 7 GND

## LF15_TO220
designator *  value LF15_TO220  Reference: U
Low-drop Voltage Regulator, Io up to 500mA, Fixed Vo 1.5V, TO-220; ki_keywords: LDO regulator voltage; ki_fp_filters: TO?220*; Footprint: Package_TO_SOT_THT:TO-220-3_Vertical; Datasheet: http://www.st.com/content/ccc/resource/technical/document/datasheet/c4/0e/7e/2a/be/bc/4c/bd/CD00000546.pdf/files/CD00000546.pdf/jcr:content/translations/en.CD00000546.pdf; Description_: Low-drop Voltage Regulator, Io up to 500mA, Fixed Vo 1.5V, TO-220
pins: 1 VI, 2 GND, 3 VO

## LF15_TO252
designator *  value LF15_TO252  Reference: U
Low-drop Voltage Regulator, Io up to 500mA, Fixed Vo 1.5V, TO-252 (DPAK); ki_keywords: LDO regulator voltage; ki_fp_filters: TO?252*; Footprint: Package_TO_SOT_SMD:TO-252-2; Datasheet: http://www.st.com/content/ccc/resource/technical/document/datasheet/c4/0e/7e/2a/be/bc/4c/bd/CD00000546.pdf/files/CD00000546.pdf/jcr:content/translations/en.CD00000546.pdf; Description_: Low-drop Voltage Regulator, Io up to 500mA, Fixed Vo 1.5V, TO-252 (DPAK)
pins: 1 VI, 2 GND, 3 VO

## LF18_TO220
designator *  value LF18_TO220  Reference: U
Low-drop Voltage Regulator, Io up to 500mA, Fixed Vo 1.8V, TO-220; ki_keywords: LDO regulator voltage; ki_fp_filters: TO?220*; Footprint: Package_TO_SOT_THT:TO-220-3_Vertical; Datasheet: http://www.st.com/content/ccc/resource/technical/document/datasheet/c4/0e/7e/2a/be/bc/4c/bd/CD00000546.pdf/files/CD00000546.pdf/jcr:content/translations/en.CD00000546.pdf; Description_: Low-drop Voltage Regulator, Io up to 500mA, Fixed Vo 1.8V, TO-220
pins: 1 VI, 2 GND, 3 VO

## LF18_TO252
designator *  value LF18_TO252  Reference: U
Low-drop Voltage Regulator, Io up to 500mA, Fixed Vo 1.8V, TO-252 (DPAK); ki_keywords: LDO regulator voltage; ki_fp_filters: TO?252*; Footprint: Package_TO_SOT_SMD:TO-252-2; Datasheet: http://www.st.com/content/ccc/resource/technical/document/datasheet/c4/0e/7e/2a/be/bc/4c/bd/CD00000546.pdf/files/CD00000546.pdf/jcr:content/translations/en.CD00000546.pdf; Description_: Low-drop Voltage Regulator, Io up to 500mA, Fixed Vo 1.8V, TO-252 (DPAK)
pins: 1 VI, 2 GND, 3 VO

## LF25_TO220
designator *  value LF25_TO220  Reference: U
Low-drop Voltage Regulator, Io up to 500mA, Fixed Vo 2.5V, TO-220; ki_keywords: LDO regulator voltage; ki_fp_filters: TO?220*; Footprint: Package_TO_SOT_THT:TO-220-3_Vertical; Datasheet: http://www.st.com/content/ccc/resource/technical/document/datasheet/c4/0e/7e/2a/be/bc/4c/bd/CD00000546.pdf/files/CD00000546.pdf/jcr:content/translations/en.CD00000546.pdf; Description_: Low-drop Voltage Regulator, Io up to 500mA, Fixed Vo 2.5V, TO-220
pins: 1 VI, 2 GND, 3 VO

## LF25_TO252
designator *  value LF25_TO252  Reference: U
Low-drop Voltage Regulator, Io up to 500mA, Fixed Vo 2.5V, TO-252 (DPAK); ki_keywords: LDO regulator voltage; ki_fp_filters: TO?252*; Footprint: Package_TO_SOT_SMD:TO-252-2; Datasheet: http://www.st.com/content/ccc/resource/technical/document/datasheet/c4/0e/7e/2a/be/bc/4c/bd/CD00000546.pdf/files/CD00000546.pdf/jcr:content/translations/en.CD00000546.pdf; Description_: Low-drop Voltage Regulator, Io up to 500mA, Fixed Vo 2.5V, TO-252 (DPAK)
pins: 1 VI, 2 GND, 3 VO

## LF33_TO220
designator *  value LF33_TO220  Reference: U
Low-drop Voltage Regulator, Io up to 500mA, Fixed Vo 3.3V, TO-220; ki_keywords: LDO regulator voltage; ki_fp_filters: TO?220*; Footprint: Package_TO_SOT_THT:TO-220-3_Vertical; Datasheet: http://www.st.com/content/ccc/resource/technical/document/datasheet/c4/0e/7e/2a/be/bc/4c/bd/CD00000546.pdf/files/CD00000546.pdf/jcr:content/translations/en.CD00000546.pdf; Description_: Low-drop Voltage Regulator, Io up to 500mA, Fixed Vo 3.3V, TO-220
pins: 1 VI, 2 GND, 3 VO

## LF33_TO252
designator *  value LF33_TO252  Reference: U
Low-drop Voltage Regulator, Io up to 500mA, Fixed Vo 3.3V, TO-252 (DPAK); ki_keywords: LDO regulator voltage; ki_fp_filters: TO?252*; Footprint: Package_TO_SOT_SMD:TO-252-2; Datasheet: http://www.st.com/content/ccc/resource/technical/document/datasheet/c4/0e/7e/2a/be/bc/4c/bd/CD00000546.pdf/files/CD00000546.pdf/jcr:content/translations/en.CD00000546.pdf; Description_: Low-drop Voltage Regulator, Io up to 500mA, Fixed Vo 3.3V, TO-252 (DPAK)
pins: 1 VI, 2 GND, 3 VO

## LF47_TO220
designator *  value LF47_TO220  Reference: U
Low-drop Voltage Regulator, Io up to 500mA, Fixed Vo 4.7V, TO-220; ki_keywords: LDO regulator voltage; ki_fp_filters: TO?220*; Footprint: Package_TO_SOT_THT:TO-220-3_Vertical; Datasheet: http://www.st.com/content/ccc/resource/technical/document/datasheet/c4/0e/7e/2a/be/bc/4c/bd/CD00000546.pdf/files/CD00000546.pdf/jcr:content/translations/en.CD00000546.pdf; Description_: Low-drop Voltage Regulator, Io up to 500mA, Fixed Vo 4.7V, TO-220
pins: 1 VI, 2 GND, 3 VO

## LF47_TO252
designator *  value LF47_TO252  Reference: U
Low-drop Voltage Regulator, Io up to 500mA, Fixed Vo 4.7V, TO-252 (DPAK); ki_keywords: LDO regulator voltage; ki_fp_filters: TO?252*; Footprint: Package_TO_SOT_SMD:TO-252-2; Datasheet: http://www.st.com/content/ccc/resource/technical/document/datasheet/c4/0e/7e/2a/be/bc/4c/bd/CD00000546.pdf/files/CD00000546.pdf/jcr:content/translations/en.CD00000546.pdf; Description_: Low-drop Voltage Regulator, Io up to 500mA, Fixed Vo 4.7V, TO-252 (DPAK)
pins: 1 VI, 2 GND, 3 VO

## LF50_TO220
designator *  value LF50_TO220  Reference: U
Low-drop Voltage Regulator, Io up to 500mA, Fixed Vo 5.0V, TO-220; ki_keywords: LDO regulator voltage; ki_fp_filters: TO?220*; Footprint: Package_TO_SOT_THT:TO-220-3_Vertical; Datasheet: http://www.st.com/content/ccc/resource/technical/document/datasheet/c4/0e/7e/2a/be/bc/4c/bd/CD00000546.pdf/files/CD00000546.pdf/jcr:content/translations/en.CD00000546.pdf; Description_: Low-drop Voltage Regulator, Io up to 500mA, Fixed Vo 5.0V, TO-220
pins: 1 VI, 2 GND, 3 VO

## LF50_TO252
designator *  value LF50_TO252  Reference: U
Low-drop Voltage Regulator, Io up to 500mA, Fixed Vo 5.0V, TO-252 (DPAK); ki_keywords: LDO regulator voltage; ki_fp_filters: TO?252*; Footprint: Package_TO_SOT_SMD:TO-252-2; Datasheet: http://www.st.com/content/ccc/resource/technical/document/datasheet/c4/0e/7e/2a/be/bc/4c/bd/CD00000546.pdf/files/CD00000546.pdf/jcr:content/translations/en.CD00000546.pdf; Description_: Low-drop Voltage Regulator, Io up to 500mA, Fixed Vo 5.0V, TO-252 (DPAK)
pins: 1 VI, 2 GND, 3 VO

## LF60_TO220
designator *  value LF60_TO220  Reference: U
Low-drop Voltage Regulator, Io up to 500mA, Fixed Vo 6.0V, TO-220; ki_keywords: LDO regulator voltage; ki_fp_filters: TO?220*; Footprint: Package_TO_SOT_THT:TO-220-3_Vertical; Datasheet: http://www.st.com/content/ccc/resource/technical/document/datasheet/c4/0e/7e/2a/be/bc/4c/bd/CD00000546.pdf/files/CD00000546.pdf/jcr:content/translations/en.CD00000546.pdf; Description_: Low-drop Voltage Regulator, Io up to 500mA, Fixed Vo 6.0V, TO-220
pins: 1 VI, 2 GND, 3 VO

## LF60_TO252
designator *  value LF60_TO252  Reference: U
Low-drop Voltage Regulator, Io up to 500mA, Fixed Vo 6.0V, TO-252 (DPAK); ki_keywords: LDO regulator voltage; ki_fp_filters: TO?252*; Footprint: Package_TO_SOT_SMD:TO-252-2; Datasheet: http://www.st.com/content/ccc/resource/technical/document/datasheet/c4/0e/7e/2a/be/bc/4c/bd/CD00000546.pdf/files/CD00000546.pdf/jcr:content/translations/en.CD00000546.pdf; Description_: Low-drop Voltage Regulator, Io up to 500mA, Fixed Vo 6.0V, TO-252 (DPAK)
pins: 1 VI, 2 GND, 3 VO

## LF80_TO220
designator *  value LF80_TO220  Reference: U
Low-drop Voltage Regulator, Io up to 500mA, Fixed Vo 8.0V, TO-220; ki_keywords: LDO regulator voltage; ki_fp_filters: TO?220*; Footprint: Package_TO_SOT_THT:TO-220-3_Vertical; Datasheet: http://www.st.com/content/ccc/resource/technical/document/datasheet/c4/0e/7e/2a/be/bc/4c/bd/CD00000546.pdf/files/CD00000546.pdf/jcr:content/translations/en.CD00000546.pdf; Description_: Low-drop Voltage Regulator, Io up to 500mA, Fixed Vo 8.0V, TO-220
pins: 1 VI, 2 GND, 3 VO